# Altium footprint library WT931.PcbLib: 1 footprints
Each footprint in its own frame and in the unit in brackets; x right, y up, seen from the top. Pads: shape width x height; smd on the part's side, far side on the other; paste and mask are expansions set on the pad; w line width, h text height; cw(c..) or ccw(c..) is an arc to the next point about the centre after c.
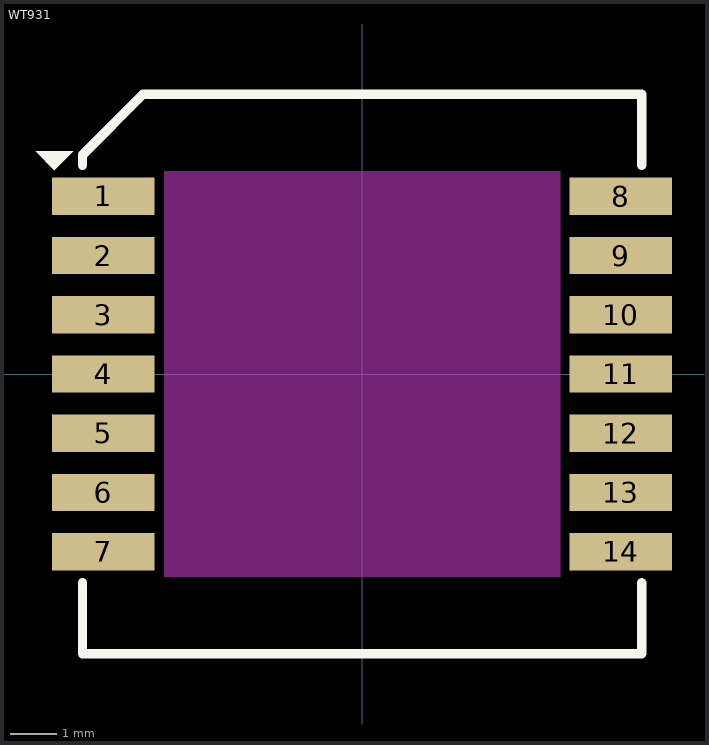
[diagram p0: the footprint, top view; thin cyan lines are the x and y axes]

## WT931 [mm]
pads (14):
  rect 2.2x0.8 smd: 1(-5.55,3.81) 2(-5.55,2.54) 3(-5.55,1.27) 4(-5.55,0) 5(-5.55,-1.27) 6(-5.55,-2.54) 7(-5.55,-3.81) 8(5.55,3.81) 9(5.55,2.54) 10(5.55,1.27) 11(5.55,0) 12(5.55,-1.27) 13(5.55,-2.54) 14(5.55,-3.81)
Top Layer keep-out:
  rectangle: -4.25,-4.35 4.25,4.35
Top Overlay:
  region: -7,4.775 -6.2,4.775 -6.6,4.375
  lines w0.2: -6,-4.475 -6,-6 6,-6 6,-4.475 ; -6,4.475 -6,4.7 -4.7,6 6,6 6,4.475
3D body: height 2.5, standoff 0, extent -6,-6 6,6